# EAGLE library part SSM-119-L-DV (library SSM-119-L-DV)
Check prices <https://pricing.snapeda.com/parts/SSM-119-L-DV/Samtec%20Inc./view-part?ref=eda>
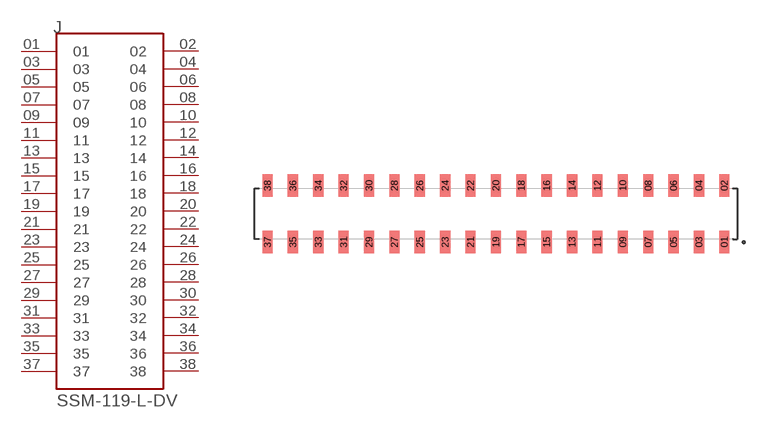
[diagram p0: symbol with the pads of SAMTEC_SSM-119-L-DV; footprint SAMTEC_SSM-119-L-DV]

Designator prefix J

## SSM-119-L-DV (Availability: In Stock; Description: 38 Position Receptacle, Pass Through Connector 0.100 (2.54mm) Surface Mount Gold; MF: Samtec Inc.; MP: SSM-119-L-DV; Package: None; Price: None; Purchase-URL: https://pricing.snapeda.com/search/part/SSM-119-L-DV/?ref=eda)  [SAMTEC_SSM-119-L-DV]
01  01  pas
02  02  pas
03  03  pas
04  04  pas
05  05  pas
06  06  pas
07  07  pas
08  08  pas
09  09  pas
10  10  pas
11  11  pas
12  12  pas
13  13  pas
14  14  pas
15  15  pas
16  16  pas
17  17  pas
18  18  pas
19  19  pas
20  20  pas
21  21  pas
22  22  pas
23  23  pas
24  24  pas
25  25  pas
26  26  pas
27  27  pas
28  28  pas
29  29  pas
30  30  pas
31  31  pas
32  32  pas
33  33  pas
34  34  pas
35  35  pas
36  36  pas
37  37  pas
38  38  pas

## Footprint SAMTEC_SSM-119-L-DV (pad centres in mm)
smd 1.02 x 2.22: 01 22.86,-2.825; 02 22.86,2.825; 03 20.32,-2.825; 04 20.32,2.825; 05 17.78,-2.825; 06 17.78,2.825; 07 15.24,-2.825; 08 15.24,2.825; 09 12.7,-2.825; 10 12.7,2.825; 11 10.16,-2.825; 12 10.16,2.825; 13 7.62,-2.825; 14 7.62,2.825; 15 5.08,-2.825; 16 5.08,2.825; 17 2.54,-2.825; 18 2.54,2.825; 19 0,-2.825; 20 0,2.825; 21 -2.54,-2.825; 22 -2.54,2.825; 23 -5.08,-2.825; 24 -5.08,2.825; 25 -7.62,-2.825; 26 -7.62,2.825; 27 -10.16,-2.825; 28 -10.16,2.825; 29 -12.7,-2.825; 30 -12.7,2.825; 31 -15.24,-2.825; 32 -15.24,2.825; 33 -17.78,-2.825; 34 -17.78,2.825; 35 -20.32,-2.825; 36 -20.32,2.825; 37 -22.86,-2.825; 38 -22.86,2.825